# Altium footprint library S8201-46R.PcbLib: 1 footprints
Each footprint in its own frame and in the unit in brackets; x right, y up, seen from the top. Pads: shape width x height; smd on the part's side, far side on the other; paste and mask are expansions set on the pad; w line width, h text height; cw(c..) or ccw(c..) is an arc to the next point about the centre after c.
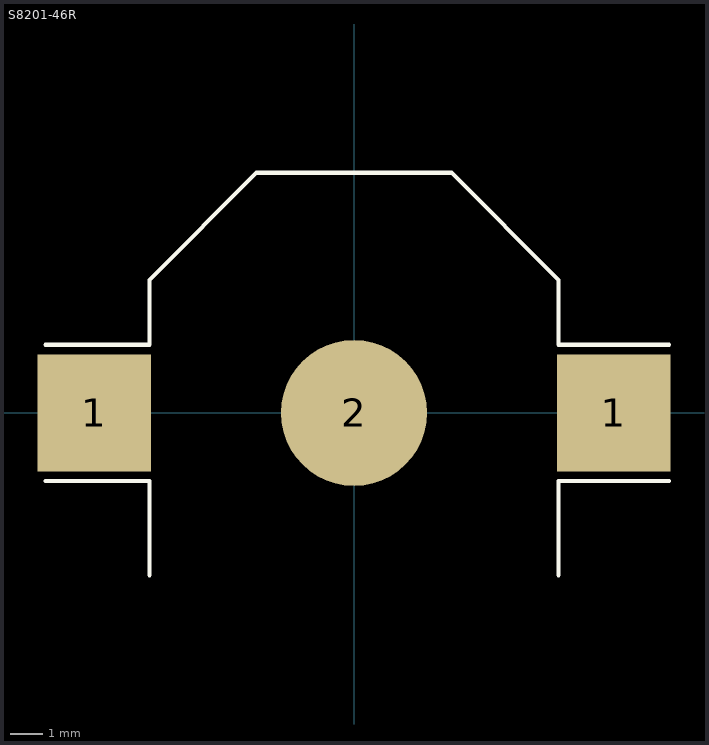
[diagram p0: the footprint, top view; thin cyan lines are the x and y axes]

## S8201-46R [mm]
height 3.2
pads (3):
  rect 3.5x3.6 smd mask+0: 1(-8,0) 1(8,0)
  round 4.5 smd mask+0: 2(0,0)
Top Overlay:
  lines w0.127: -9.5,-2.1 -6.3,-2.1 -6.3,-5 ; -9.5,2.1 -6.3,2.1 -6.3,4.1 -3,7.4 3,7.4 6.3,4.1 6.3,2.1 9.7,2.1 ; 6.3,-5 6.3,-2.1 9.7,-2.1
Mechanical 15:
  lines w0.127: -0.381,0 0,0 ; 0,-0.381 0,0 ; 0,0.381 0,0 ; 0.381,0 0,0
3D body "s8201-46r.stp": height 3.2, standoff 0, extent -9.5,-5 9.5,6.818